# EAGLE library part 692121030100 (library Wurth_Connectors_WR-USB)
WR-COM USB 3.0 Type A Horizontal Kind Properties Durability:5 000 Mating cycles Quality Class:5 000 Mating cycles Connector Type:USB Gender:Receptacle Type:Horizontal General Information Operating Temperature:-20up to +85 °C Compliance:RoHS Electrical Properties IR 1:1.8A Working Voltage:30V (AC) Withstanding Voltage:100V (AC) Contact Resistance:50 mΩ Material Properties Insulator Material:LCP Insulator Flammability Rating:UL94 V-0 Color:Blue Contact Material:Phosphor Bronze Contact Plating:Matte Tin over Nickel Contact Type:Stamped Shielding Material:Brass Shielding Plating:Matte Tin <https://www.we-online.com/catalog/media/o33027v209%20Family_WR-COM_692121xxx100.jpg> Details see: https://www.we-online.com/catalog/en/COM_3_0_TYPE_A_HORIZONTAL/ Updated by Yingchun, Shan 2020-01-16 2020 (C) Würth Elektronik
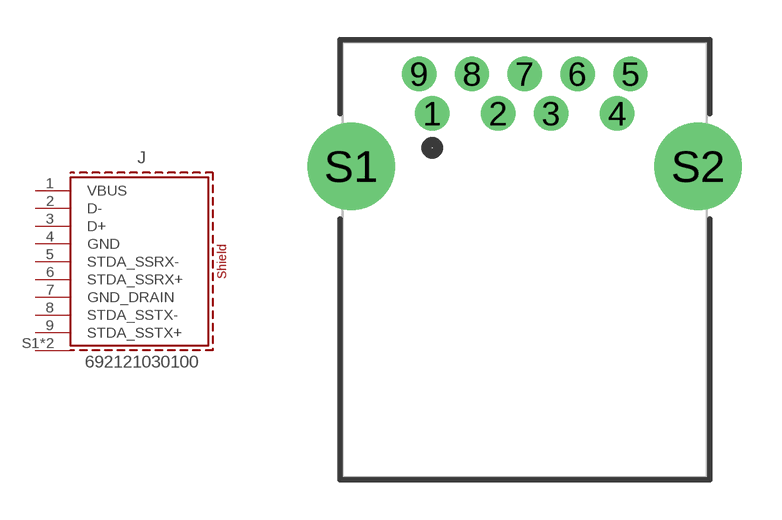
[diagram p6: symbol with the pads of 692121030100; footprint 692121030100]

Designator prefix J

## 692121030100 (APPLICATION: USB 3.0; DATASHEET-URL: https://www.we-online.com/redexpert/spec/692121030100?ae; GERDER: Receptacle; INTERFACE-TYPE: Type A; IR: 1.8A; MOUNT: THT; PACKAGING: Tape and Reel; PART-NUMBER: 692121030100; PINS: 9; TYPE: Horizontal; VALUE: 692121030100; WORKING-VOLTAGE: 30V(AC))  [692121030100]
1  VBUS  pas
2  D-  pas
3  D+  pas
4  GND  pas
5  STDA_SSRX-  pas
6  STDA_SSRX+  pas
7  GND_DRAIN  pas
8  STDA_SSTX-  pas
9  STDA_SSTX+  pas
S1  SHIELD  pas
S2  SHIELD  pas

## Footprint 692121030100 (pad centres in mm)
WR-COM USB 3.0 HORIZONTAL TYPE A
drill 0.7 pad 1.3: 1 -3.5,5.36; 2 -1,5.36; 3 1,5.36; 4 3.5,5.36; 5 4,6.86; 6 2,6.86; 7 0,6.86; 8 -2,6.86; 9 -4,6.86
drill 2.3 pad 3.3: S1 -6.57,3.36; S2 6.57,3.36